# EAGLE library part POWER_JACK_DIN5 (library harrison)
Digi-Key part number CP-7050-ND
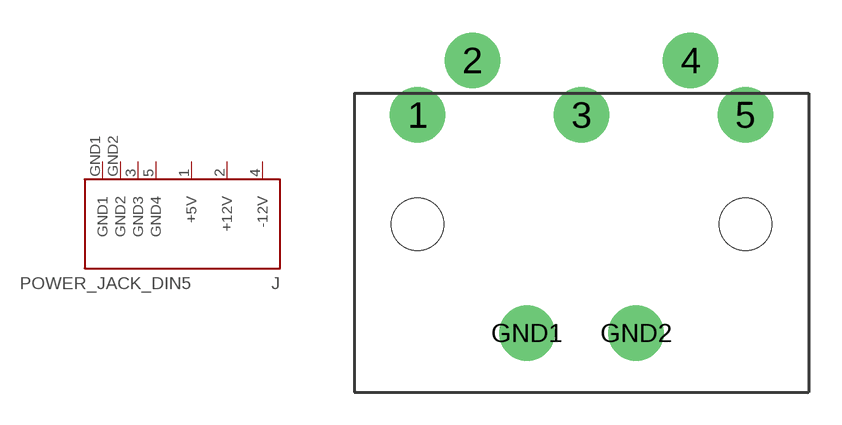
[diagram p91: symbol with the pads of POWER_JACK_SDF-50J; footprint POWER_JACK_SDF-50J]

Designator prefix J

## POWER_JACK_DIN5  [POWER_JACK_SDF-50J]
1  +5V  pwr
2  +12V  pwr
3  GND3  pwr
4  -12V  pwr
5  GND4  pwr
GND1  GND1  pwr
GND2  GND2  pwr

## Footprint POWER_JACK_SDF-50J (pad centres in mm)
Digi-Key part number CP-7050-ND
drill 1.3 pad 2.54: 1 -7.5,5; 2 -5,7.5; 3 0,5; 4 5,7.5; 5 7.5,5; GND1 -2.5,-5; GND2 2.5,-5
hole 2.4 at -7.5,0
hole 2.4 at 7.5,0